# EAGLE library part IXDN604 (library gwu_mpnl_ucat_v10)
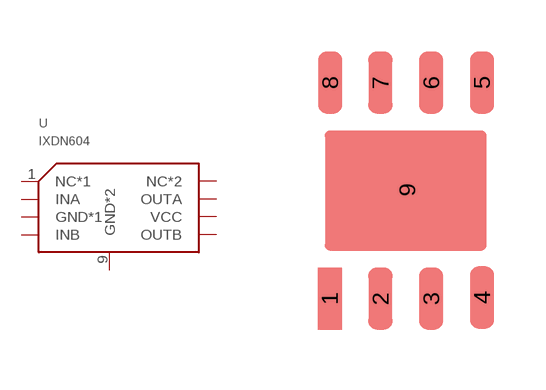
[diagram p17: symbol with the pads of IXYS-SI-8PIN-POWER-SOIC; footprint IXYS-SI-8PIN-POWER-SOIC]

Designator prefix -

## IXDN604/SI (MF: IXYS; MPN: IXDN604SI)  [IXYS-SI-8PIN-POWER-SOIC]
1  NC*1  nc
2  INA
3  GND*1
4  INB
5  OUTB
6  VCC
7  OUTA
8  NC*2  nc
9  GND*2

## Footprint IXYS-SI-8PIN-POWER-SOIC (pad centres in mm)
smd 0.6 x 1.55: 1 0,0; 2 1.27,0; 3 2.54,0; 4 3.81,0.03; 5 3.81,5.4; 6 2.54,5.4; 7 1.27,5.4; 8 0.01,5.4; 9 1.94,2.72